# EAGLE library part 613044243121 (library Wuerth_Elektronik_eiCan_Pin_&_Socked_Headers_v1.3)
WR-PHD Angled Dual Socket Header, 40 Pins
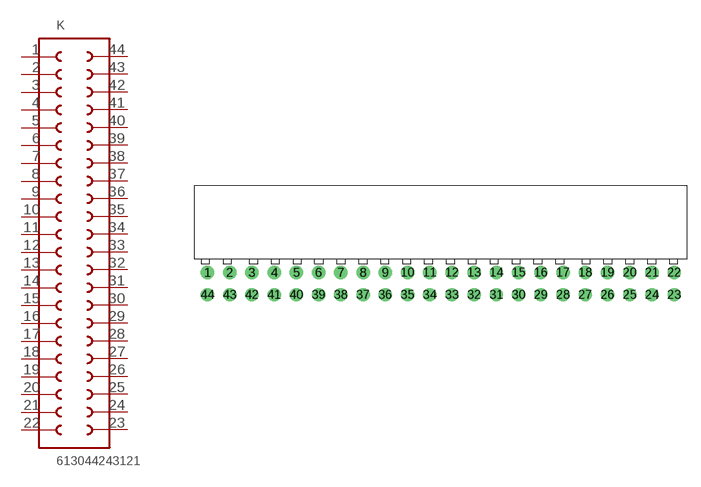
[diagram p183: symbol with the pads of 613044243121; footprint 613044243121]

Designator prefix K

## 613044243121  [613044243121]
1  1  pas
2  2  pas
3  3  pas
4  4  pas
5  5  pas
6  6  pas
7  7  pas
8  8  pas
9  9  pas
10  10  pas
11  11  pas
12  12  pas
13  13  pas
14  14  pas
15  15  pas
16  16  pas
17  17  pas
18  18  pas
19  19  pas
20  20  pas
21  21  pas
22  22  pas
23  23  pas
24  24  pas
25  25  pas
26  26  pas
27  27  pas
28  28  pas
29  29  pas
30  30  pas
31  31  pas
32  32  pas
33  33  pas
34  34  pas
35  35  pas
36  36  pas
37  37  pas
38  38  pas
39  39  pas
40  40  pas
41  41  pas
42  42  pas
43  43  pas
44  44  pas

## Footprint 613044243121 (pad centres in mm)
WR-PHD Angled Dual Socket Header, 44 Pins
drill 1.02 round: 1 -48.26,0; 2 -45.72,0; 3 -43.18,0; 4 -40.64,0; 5 -38.1,0; 6 -35.56,0; 7 -33.02,0; 8 -30.48,0; 9 -27.94,0; 10 -25.4,0; 11 -22.86,0; 12 -20.32,0; 13 -17.78,0; 14 -15.24,0; 15 -12.7,0; 16 -10.16,0; 17 -7.62,0; 18 -5.08,0; 19 -2.54,0; 20 0,0; 21 2.54,0; 22 5.08,0; 23 5.08,-2.54; 24 2.54,-2.54; 25 0,-2.54; 26 -2.54,-2.54; 27 -5.08,-2.54; 28 -7.62,-2.54; 29 -10.16,-2.54; 30 -12.7,-2.54; 31 -15.24,-2.54; 32 -17.78,-2.54; 33 -20.32,-2.54; 34 -22.86,-2.54; 35 -25.4,-2.54; 36 -27.94,-2.54; 37 -30.48,-2.54; 38 -33.02,-2.54; 39 -35.56,-2.54; 40 -38.1,-2.54; 41 -40.64,-2.54; 42 -43.18,-2.54; 43 -45.72,-2.54; 44 -48.26,-2.54